# Altium schematic symbol library BTS432.Schlib: 1 symbol
Pins are listed as number, name and electrical type; pins without a type are passive.

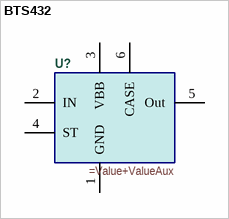
[diagram p0: symbol BTS432]

## BTS432
designator U?
=Description
pins: 1 GND, 2 IN, 3 VBB, 4 ST, 5 Out, 6 CASE